# Altium footprint library Connector.PcbLib: 21 footprints (part 1 of 2)
Each footprint in its own frame and in the unit in brackets; x right, y up, seen from the top. Pads: shape width x height; smd on the part's side, far side on the other; paste and mask are expansions set on the pad; w line width, h text height; cw(c..) or ccw(c..) is an arc to the next point about the centre after c.
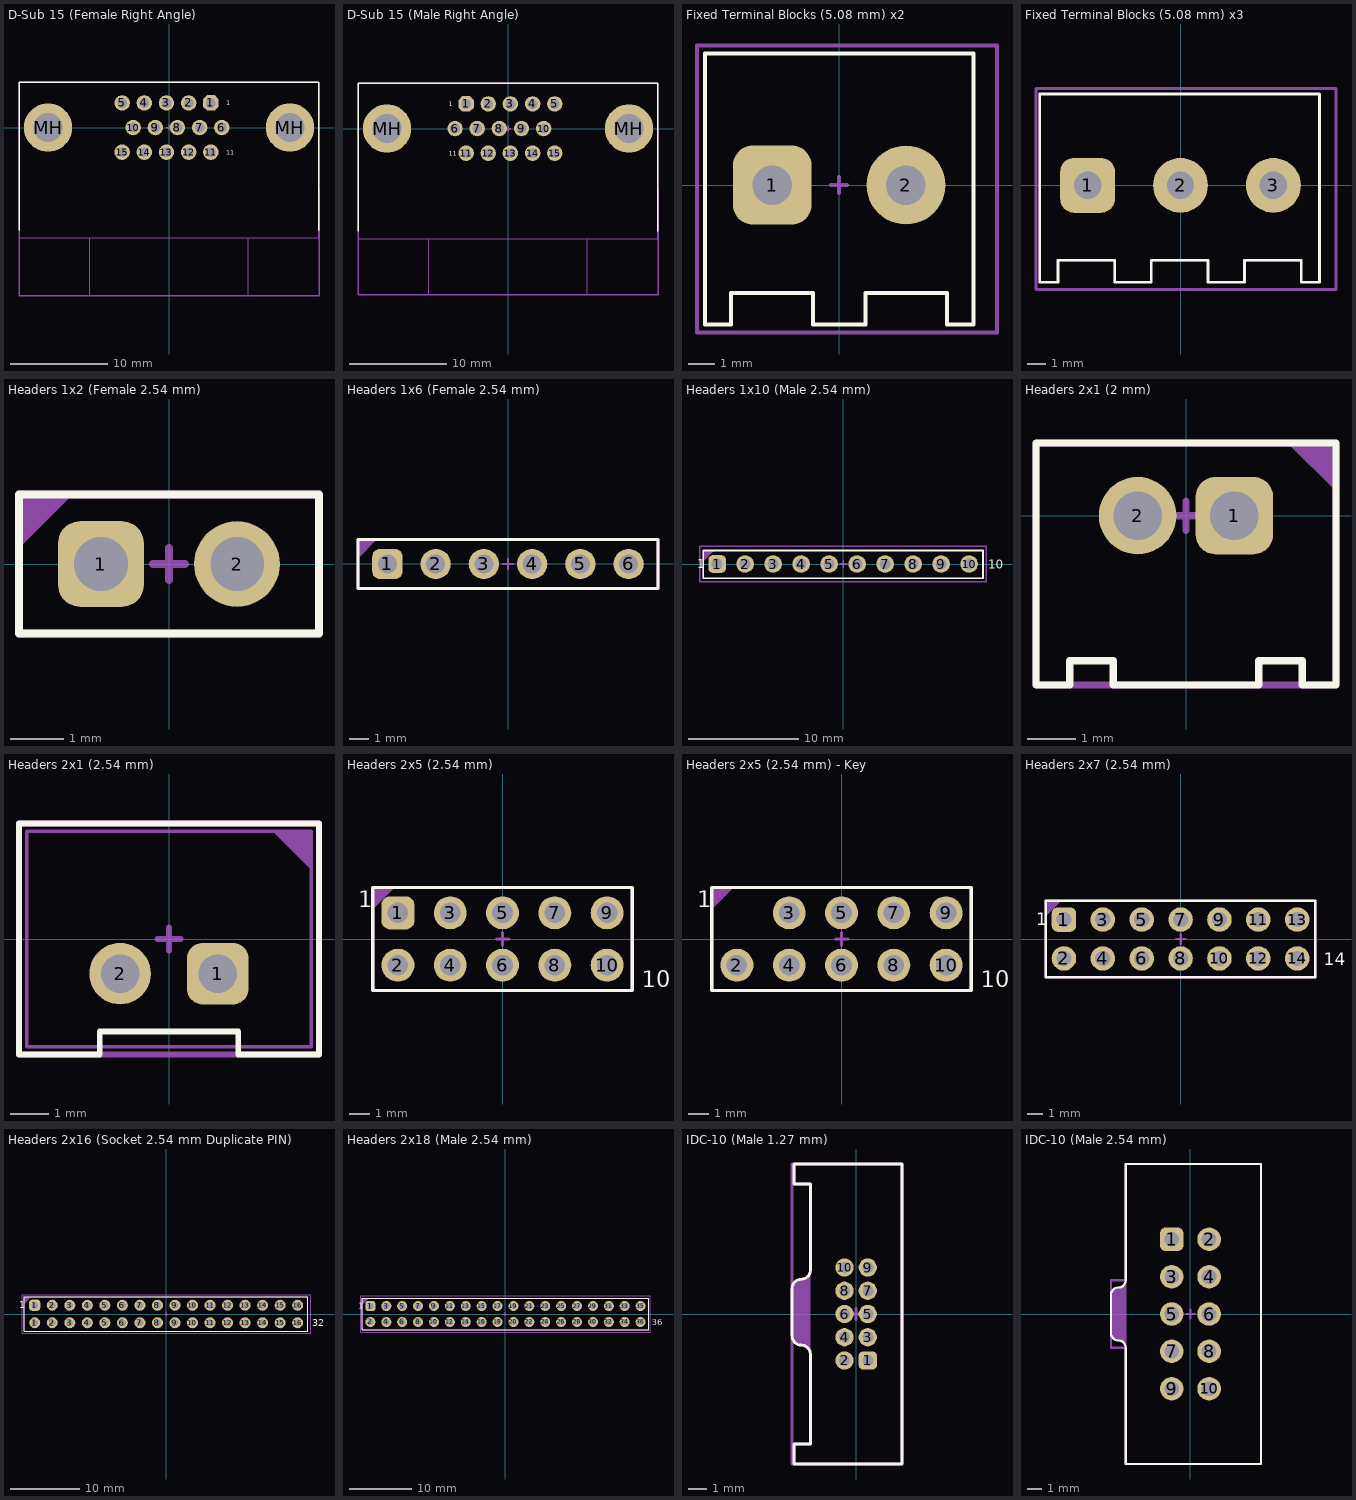
[diagram p0: the footprints below, top view; thin cyan lines are the x and y axes]

## D-Sub 15 (Female Right Angle) [mm]
pads (17):
  oct 1.6x1.6 hole 1: 1(4.316,2.54)
  round 1.6 hole 1: 2(2.026,2.54) 3(-0.264,2.54) 4(-2.554,2.54) 5(-4.844,2.54) 6(5.456,0) 7(3.166,0) 8(0.876,0) 9(-1.414,0) 10(-3.704,0) 11(4.316,-2.54) 12(2.026,-2.54) 13(-0.264,-2.54) 14(-2.554,-2.54) 15(-4.844,-2.54)
  round 5 hole 3: MH(-12.5,0) MH(12.5,0)
Top Overlay:
  lines w0.153: -15.5,-10.6 -15.5,4.7 15.5,4.7 15.5,-10.6
  text "11" at 5.9,-2.79 h0.5
  text "1" at 5.9,2.29 h0.5
Mechanical 1:
  lines w0.1: -15.5,-11.4 15.5,-11.4
  text "PCB EDGE" at -3.066,-11.2 h0.8
Top Assembly:
  lines w0.1: -15.5,-11.4 -8.2,-11.4 -8.2,-17.4 8.2,-17.4 8.2,-11.4 15.5,-11.4 15.5,4.7 -15.5,4.7 -15.5,-11.4
  text "'.Designator'" at -4.532,-0.333 h0.8
Top Courtyard:
  lines w0.153: -0.3,0 0.3,0 ; 0,-0.3 0,0.3 ; -15.5,-17.4 -15.5,4.7 15.5,4.7 15.5,-17.4 -15.5,-17.4
3D body "c-1-1734344-2-b-3d.stp": height 12.55, standoff -3.45, extent -15.4,-17.4 15.4,4.6

## D-Sub 15 (Male Right Angle) [mm]
pads (17):
  oct 1.6x1.6 hole 1: 1(-4.33,2.54)
  round 1.6 hole 1: 2(-2.04,2.54) 3(0.25,2.54) 4(2.54,2.54) 5(4.83,2.54) 6(-5.475,0) 7(-3.185,0) 8(-0.895,0) 9(1.395,0) 10(3.685,0) 11(-4.33,-2.54) 12(-2.04,-2.54) 13(0.25,-2.54) 14(2.54,-2.54) 15(4.83,-2.54)
  round 5 hole 3: MH(-12.5,0) MH(12.5,0)
Top Overlay:
  lines w0.153: -15.5,-10.6 -15.5,4.7 15.5,4.7 15.5,-10.6
  text "1" at -6.1,2.29 h0.5
  text "11" at -6.1,-2.79 h0.5
Mechanical 1:
  lines w0.1: -15.5,-11.4 15.5,-11.4
  text "PCB EDGE" at -3.066,-11.2 h0.8
Top Assembly:
  lines w0.1: -15.5,-11.4 -8.2,-11.4 -8.2,-17.2 8.2,-17.2 8.2,-11.4 15.5,-11.4 15.5,4.7 -15.5,4.7 -15.5,-11.4
  text "'.Designator'" at -4.532,-0.333 h0.8
Top Courtyard:
  lines w0.153: -0.3,0 0.3,0 ; 0,-0.3 0,0.3 ; -15.5,-17.2 -15.5,4.7 15.5,4.7 15.5,-17.2 -15.5,-17.2
3D body "10090926-P15.stp": height 12.55, standoff -4, extent -15.445,-17.2 15.445,4.7

## Fixed Terminal Blocks (5.08 mm) x2 [mm]
pads (2):
  rrect50% 3x3 hole 1.5: 1(-2.54,0)
  round 3 hole 1.5: 2(2.54,0)
Top Overlay:
  lines w0.153: -5.1,-5.3 -4.1,-5.3 -4.1,-4.1 -1,-4.1 -1,-5.3 1,-5.3 1,-4.1 4.1,-4.1 4.1,-5.3 5.1,-5.3 5.1,5 -5.1,5 -5.1,-5.3
Top Assembly:
  lines w0.1: -5.1,-5.3 -5.1,5 5.1,5 5.1,-5.3 4.1,-5.3 4.1,-4.1 1,-4.1 1,-5.3 -1,-5.3 -1,-4.1 -4.1,-4.1 -4.1,-5.3 -5.1,-5.3
  text "'.Designator'" at -4.532,-0.333 h0.8
Top Courtyard:
  lines w0.153: -0.3,0 0.3,0 ; 0,-0.3 0,0.3 ; -5.4,-5.6 -5.4,5.3 6,5.3 6,-5.6 -5.4,-5.6
3D body "CUI_DEVICES_TB007-508-02BE.step": height 14.1, standoff -3.6, extent -5.08,-5.325 5.68,4.925

## Fixed Terminal Blocks (5.08 mm) x3 [mm]
pads (3):
  rrect50% 3x3 hole 1.5: 1(-5.08,0)
  round 3 hole 1.5: 2(0,0) 3(5.08,0)
Top Overlay:
  lines w0.153: -7.7,-5.3 -6.7,-5.3 -6.7,-4.1 -3.6,-4.1 -3.6,-5.3 -1.6,-5.3 -1.6,-4.1 1.5,-4.1 1.5,-5.3 3.5,-5.3 3.5,-4.1 6.6,-4.1 6.6,-5.3 7.6,-5.3 7.6,5 -7.7,5 -7.7,-5.3
Top Assembly:
  lines w0.1: -7.7,-5.3 -6.7,-5.3 -6.7,-4.1 -3.6,-4.1 -3.6,-5.3 -1.6,-5.3 -1.6,-4.1 1.5,-4.1 1.5,-5.3 3.5,-5.3 3.5,-4.1 6.6,-4.1 6.6,-5.3 7.6,-5.3 7.6,5 -7.7,5 -7.7,-5.3
  text "'.Designator'" at -4.532,-0.333 h0.8
Top Courtyard:
  lines w0.153: -0.3,0 0.3,0 ; 0,-0.3 0,0.3 ; -7.9,-5.7 -7.9,5.3 8.5,5.3 8.5,-5.7 -7.9,-5.7
3D body "CUI_DEVICES_TB007-508-03BE.step": height 14.1, standoff -3.6, extent -7.62,-5.325 8.22,4.925

## Headers 1x2 (Female 2.54 mm) [mm]
pads (2):
  rrect50% 1.6x1.6 hole 1: 1(-1.27,0)
  round 1.6 hole 1: 2(1.27,0)
Top Overlay:
  lines w0.153: -2.8,-1.3 2.8,-1.3 2.8,1.3 -2.8,1.3 -2.8,-1.3
Top Assembly:
  region: -2.8,1.3 -1.8,1.3 -2.8,0.3
  lines w0.1: -2.8,-1.3 2.8,-1.3 2.8,1.3 -2.8,1.3 -2.8,-1.3
  text "'.Designator'" at -4.532,-0.333 h0.8
Top Courtyard:
  lines w0.153: -0.3,0 0.3,0 ; 0,-0.3 0,0.3 ; -2.8,-1.3 -2.8,1.3 2.8,1.3 2.8,-1.3 -2.8,-1.3
3D body "PCB.step": height 8.5, standoff -3.2, extent -2.79,-1.27 2.79,1.27

## Headers 1x6 (Female 2.54 mm) [mm]
pads (6):
  rrect50% 1.6x1.6 hole 1: 1(-6.35,0)
  round 1.6 hole 1: 2(-3.81,0) 3(-1.27,0) 4(1.27,0) 5(3.81,0) 6(6.35,0)
Top Overlay:
  lines w0.153: -7.9,-1.3 7.9,-1.3 7.9,1.3 -7.9,1.3 -7.9,-1.3
Top Assembly:
  region: -7.9,1.3 -6.9,1.3 -7.9,0.3
  lines w0.1: -7.9,-1.3 7.9,-1.3 7.9,1.3 -7.9,1.3 -7.9,-1.3
  text "'.Designator'" at -4.532,-0.333 h0.8
Top Courtyard:
  lines w0.1: -0.3,0 0.3,0 ; 0,-0.3 0,0.3
  lines w0.153: -7.9,-1.3 7.9,-1.3 7.9,1.3 -7.9,1.3 -7.9,-1.3
3D body "User Library-Header_Fem_1X6 (1).step": height 8.5, standoff -3.2, extent -7.87,-1.27 7.87,1.27

## Headers 1x10 (Male 2.54 mm) [mm]
pads (10):
  rrect50% 1.6x1.6 hole 1: 1(-11.43,0)
  round 1.6 hole 1: 2(-8.89,0) 3(-6.35,0) 4(-3.81,0) 5(-1.27,0) 6(1.27,0) 7(3.81,0) 8(6.35,0) 9(8.89,0) 10(11.43,0)
Top Overlay:
  lines w0.153: -12.7,-1.3 12.7,-1.3 12.7,1.23 -12.7,1.23 -12.7,-1.3
  text "10" at 13.163,-0.43 h0.8
  text "1" at -13.257,-0.37 h0.8
Top Assembly:
  region: -12.7,1.23 -12.7,0.23 -11.7,1.23
  lines w0.1: -12.7,-1.3 12.7,-1.3 12.7,1.23 -12.7,1.23 -12.7,-1.3
  text "'.Designator'" at -4.532,-0.333 h0.8
Top Courtyard:
  lines w0.153: -0.3,0 0.3,0 ; 0,-0.3 0,0.3 ; -13,-1.6 13,-1.6 13,1.6 -13,1.6 -13,-1.6
3D body "User Library-PLS-10.step": height 8.54, standoff -3, extent -12.7,-1.27 12.7,1.27

## Headers 2x1 (2 mm) [mm]
pads (2):
  rrect50% 1.6x1.6 hole 1: 1(1,0)
  round 1.6 hole 1: 2(-1,0)
Top Overlay:
  lines w0.153: -3.1,-3.5 -2.4,-3.5 -2.4,-3 -1.5,-3 -1.5,-3.5 1.5,-3.5 1.5,-3 2.4,-3 2.4,-3.5 3.1,-3.5 3.1,1.5 -3.1,1.5 -3.1,-3.5
Top Assembly:
  region: 3.1,1.5 3.1,0.5 2.1,1.5
  lines w0.1: -3.1,-3.5 -3.1,1.5 3.1,1.5 3.1,-3.5 -3.1,-3.5
  text "'.Designator'" at -4.532,-0.333 h0.8
Top Courtyard:
  lines w0.153: -0.3,0 0.3,0 ; 0,-0.3 0,0.3 ; -3.1,-3.5 -3.1,1.5 3.1,1.5 3.1,-3.5 -3.1,-3.5
3D body "User Library-MW-2M-2.STEP": height 6.2, standoff -2.7, extent -2.95,-3.4 2.95,1.4

## Headers 2x1 (2.54 mm) [mm]
pads (2):
  rrect50% 1.6x1.6 hole 1: 1(1.27,-0.9)
  round 1.6 hole 1: 2(-1.27,-0.9)
Top Overlay:
  lines w0.153: -3.9,-3 -1.8,-3 -1.8,-2.4 1.8,-2.4 1.8,-3 3.9,-3 3.9,3 -3.9,3 -3.9,-3
Top Assembly:
  region: 3.7,2.8 3.7,1.8 2.7,2.8
  lines w0.1: -3.7,-2.8 -3.7,2.8 3.7,2.8 3.7,-2.8 -3.7,-2.8
  text "'.Designator'" at -4.532,-0.333 h0.8
Top Courtyard:
  lines w0.153: -0.3,0 0.3,0 ; 0,-0.3 0,0.3 ; -3.9,-3 -3.9,3 3.9,3 3.9,-3 -3.9,-3
3D body "Untitled v1.step": height 7, standoff -3, extent -3.715,-2.825 3.715,2.825

## Headers 2x5 (2.54 mm) [mm]
pads (10):
  rrect50% 1.6x1.6 hole 1: 1(-5.08,1.27)
  round 1.6 hole 1: 2(-5.08,-1.27) 3(-2.54,1.27) 4(-2.54,-1.27) 5(0,1.27) 6(0,-1.27) 7(2.54,1.27) 8(2.54,-1.27) 9(5.08,1.27) 10(5.08,-1.27)
Top Overlay:
  lines w0.153: -6.3,-2.5 -6.3,2.5 6.3,2.5 6.3,-2.5 -6.3,-2.5
  text "1" at -7.02,1.547 h0.8
  text "10" at 6.753,-2.347 h0.8
Top Assembly:
  region: -6.26,2.5 -6.26,1.5 -5.26,2.5
  lines w0.1: -6.3,-2.5 -6.3,2.5 6.3,2.5 6.3,-2.5 -6.3,-2.5
  text "'.Designator'" at -4.532,-0.333 h0.8
Top Courtyard:
  lines w0.153: -0.3,0 0.3,0 ; 0,-0.3 0,0.3 ; -6.3,-2.5 -6.3,2.5 6.3,2.5 6.3,-2.5 -6.3,-2.5
3D body "TSW-105-07-H-D.stp": height 8.38, standoff -2.54, extent -6.35,-2.54 6.35,2.54

## Headers 2x5 (2.54 mm) - Key [mm]
pads (9):
  round 1.6 hole 1: 2(-5.08,-1.27) 3(-2.54,1.27) 4(-2.54,-1.27) 5(0,1.27) 6(0,-1.27) 7(2.54,1.27) 8(2.54,-1.27) 9(5.08,1.27) 10(5.08,-1.27)
Top Overlay:
  lines w0.153: -6.3,-2.5 -6.3,2.5 6.3,2.5 6.3,-2.5 -6.3,-2.5
  text "1" at -7.02,1.547 h0.8
  text "10" at 6.753,-2.347 h0.8
Top Assembly:
  region: -6.26,2.5 -6.26,1.5 -5.26,2.5
  lines w0.1: -6.3,-2.5 -6.3,2.5 6.3,2.5 6.3,-2.5 -6.3,-2.5
  text "'.Designator'" at -4.532,-0.333 h0.8
Top Courtyard:
  lines w0.153: -0.3,0 0.3,0 ; 0,-0.3 0,0.3 ; -6.3,-2.5 -6.3,2.5 6.3,2.5 6.3,-2.5 -6.3,-2.5
3D body "TSW-105-07-H-D.stp": height 8.38, standoff -2.54, extent -6.35,-2.54 6.35,2.54

## Headers 2x7 (2.54 mm) [mm]
pads (14):
  rrect50% 1.6x1.6 hole 1: 1(-7.62,1.27)
  round 1.6 hole 1: 2(-7.62,-1.27) 3(-5.08,1.27) 4(-5.08,-1.27) 5(-2.54,1.27) 6(-2.54,-1.27) 7(0,1.27) 8(0,-1.27) 9(2.54,1.27) 10(2.54,-1.27) 11(5.08,1.27) 12(5.08,-1.27) 13(7.62,1.27) 14(7.62,-1.27)
Top Overlay:
  lines w0.153: -8.8,-2.5 -8.8,2.5 8.8,2.5 8.8,-2.5 -8.8,-2.5
  text "1" at -9.447,0.9 h0.8
  text "14" at 9.353,-1.7 h0.8
Top Assembly:
  region: -8.8,2.5 -8.8,1.5 -7.8,2.5
  lines w0.1: -8.8,-2.5 -8.8,2.5 8.8,2.5 8.8,-2.5 -8.8,-2.5
  text "'.Designator'" at -4.532,-0.333 h0.8
Top Courtyard:
  lines w0.153: -0.3,0 0.3,0 ; 0,-0.3 0,0.3 ; -8.8,-2.5 -8.8,2.5 8.8,2.5 8.8,-2.5 -8.8,-2.5
3D body "77313_y18_14_asm.STEP": height 8.27, standoff -3.23, extent -8.681,-2.414 8.699,2.416

## Headers 2x16 (Socket 2.54 mm Duplicate PIN) [mm]
pads (32):
  round 1.6 hole 1: 1(-19.05,-1.27) 2(-16.51,-1.27) 2(-16.51,1.27) 3(-13.97,-1.27) 3(-13.97,1.27) 4(-11.43,-1.27) 4(-11.43,1.27) 5(-8.89,-1.27) 5(-8.89,1.27) 6(-6.35,-1.27) 6(-6.35,1.27) 7(-3.81,-1.27) 7(-3.81,1.27) 8(-1.27,-1.27) 8(-1.27,1.27) 9(1.27,-1.27) 9(1.27,1.27) 10(3.81,-1.27) 10(3.81,1.27) 11(6.35,-1.27) 11(6.35,1.27) 12(8.89,-1.27) 12(8.89,1.27) 13(11.43,-1.27) 13(11.43,1.27) 14(13.97,-1.27) 14(13.97,1.27) 15(16.51,-1.27) 15(16.51,1.27) 16(19.05,-1.27) 16(19.05,1.27)
  rrect50% 1.6x1.6 hole 1: 1(-19.05,1.27)
Top Overlay:
  lines w0.153: -20.56,-2.5 -20.56,2.5 20.54,2.5 20.54,-2.5 -20.56,-2.5
  text "32" at 21.14,-1.77 h1
  text "1" at -21.33,0.8 h1
Top Assembly:
  region: -20.56,2.5 -20.56,1.5 -19.56,2.5
  lines w0.1: -20.56,-2.5 -20.56,2.5 20.54,2.5 20.54,-2.5 -20.56,-2.5
  text "'.Designator'" at -4.532,-0.333 h0.8
Top Courtyard:
  lines w0.153: -0.3,0 0.3,0 ; 0,-0.3 0,0.3 ; -20.86,-2.8 20.94,-2.8 20.94,2.8 -20.86,2.8 -20.86,-2.8
3D body "User Library-PBD_(DS1023-2)_2line_connectors_h=5_0_8_5mm_step_2_54mm_fixed (1).step": height 8.5, standoff -3, extent -20.57,-2.48 20.57,2.52

## Headers 2x18 (Male 2.54 mm) [mm]
pads (36):
  rrect50% 1.6x1.6 hole 1: 1(-21.59,1.27)
  round 1.6 hole 1: 2(-21.59,-1.27) 3(-19.05,1.27) 4(-19.05,-1.27) 5(-16.51,1.27) 6(-16.51,-1.27) 7(-13.97,1.27) 8(-13.97,-1.27) 9(-11.43,1.27) 10(-11.43,-1.27) 11(-8.89,1.27) 12(-8.89,-1.27) 13(-6.35,1.27) 14(-6.35,-1.27) 15(-3.81,1.27) 16(-3.81,-1.27) 17(-1.27,1.27) 18(-1.27,-1.27) 19(1.27,1.27) 20(1.27,-1.27) 21(3.81,1.27) 22(3.81,-1.27) 23(6.35,1.27) 24(6.35,-1.27) 25(8.89,1.27) 26(8.89,-1.27) 27(11.43,1.27) 28(11.43,-1.27) 29(13.97,1.27) 30(13.97,-1.27) 31(16.51,1.27) 32(16.51,-1.27) 33(19.05,1.27) 34(19.05,-1.27) 35(21.59,1.27) 36(21.59,-1.27)
Top Overlay:
  lines w0.153: -22.86,-2.5 22.86,-2.5 22.86,2.5 -22.86,2.5 -22.86,-2.5
  text "1" at -23.57,0.8 h1
  text "36" at 23.37,-1.8 h1
Top Assembly:
  region: -22.86,2.5 -22.86,1.5 -21.86,2.5
  lines w0.1: -22.86,-2.5 22.86,-2.5 22.86,2.5 -22.86,2.5 -22.86,-2.5
  text "'.Designator'" at -4.532,-0.333 h0.8
Top Courtyard:
  lines w0.153: -0.3,0 0.3,0 ; 0,-0.3 0,0.3 ; -23.16,-2.9 -23.16,2.9 23.16,2.9 23.16,-2.9 -23.16,-2.9
3D body "TSW-105-07-H-D.stp": height 8.38, standoff -2.54, extent 2.54,-2.54 15.24,2.54
3D body "TSW-105-07-H-D.stp": height 8.38, standoff -2.54, extent -10.16,-2.54 2.54,2.54
3D body "TSW-105-07-H-D.stp": height 8.38, standoff -2.54, extent -22.86,-2.54 -10.16,2.54
3D body "TSW-105-07-H-D.stp": height 8.38, standoff -2.54, extent 10.16,-2.54 22.86,2.54

## IDC-10 (Male 1.27 mm) [mm]
pads (10):
  rrect50% 1x1 hole 0.6: 1(0.635,-2.54)
  round 1 hole 0.6: 2(-0.635,-2.54) 3(0.635,-1.27) 4(-0.635,-1.27) 5(0.635,0) 6(-0.635,0) 7(0.635,1.27) 8(-0.635,1.27) 9(0.635,2.54) 10(-0.635,2.54)
Top Overlay:
  lines w0.153: -3.5,-1.2 ccw(c-3,-1.2) -3,-1.7 cw(c-3,-2.2) -2.5,-2.2 -2.5,-7.1 -3.4,-7.1 -3.4,-8.2 2.5,-8.2 2.5,8.2 -3.4,8.2 -3.4,7.1 -2.5,7.1 -2.5,2.4 cw(c-3,2.4) -3,1.9 ccw(c-3,1.4) -3.5,1.4 -3.5,-1.2
Top Assembly:
  region: -3,-1.7 -3.099,-1.7 -3.283,-1.624 -3.424,-1.483 -3.5,-1.299 -3.5,-1.2 -3.5,1.4 -3.5,1.499 -3.424,1.683 -3.283,1.824 -3.099,1.9 -3,1.9 -2.902,1.91 -2.722,1.984 -2.584,2.122 -2.51,2.302 -2.5,2.4 -2.5,-2.2 -2.51,-2.102 -2.584,-1.922 -2.722,-1.784 -2.902,-1.71
  lines w0.153: -3.5,-1.2 ccw(c-3,-1.2) -3,-1.7 cw(c-3,-2.2) -2.5,-2.2 -2.5,-7.1 -3.4,-7.1 -3.4,-8.2 2.5,-8.2 2.5,8.2 -3.4,8.2 -3.4,7.1 -2.5,7.1 -2.5,2.4 cw(c-3,2.4) -3,1.9 ccw(c-3,1.4) -3.5,1.4 -3.5,-1.2
  text "'.Designator'" at -4.532,-0.333 h0.8
Top Courtyard:
  lines w0.153: -0.3,0 0.3,0 ; 0,-0.3 0,0.3 ; -3.5,-8.2 -3.5,8.2 2.5,8.2 2.5,-8.2 -3.5,-8.2
3D body "ESHF-105-01-L-D-TH.stp": height 5.35, standoff -1.89, extent -3.048,-8.255 2.54,8.255

## IDC-10 (Male 2.54 mm) [mm]
pads (10):
  rrect50% 1.6x1.6 hole 1: 1(-1.27,5.08)
  round 1.6 hole 1: 2(1.27,5.08) 3(-1.27,2.54) 4(1.27,2.54) 5(-1.27,0) 6(1.27,0) 7(-1.27,-2.54) 8(1.27,-2.54) 9(-1.27,-5.08) 10(1.27,-5.08)
Top Overlay:
  lines w0.153: -5.4,-1.3 ccw(c-4.9,-1.3) -4.9,-1.8 cw(c-4.9,-2.3) -4.4,-2.3 -4.4,-10.2 4.8,-10.2 4.8,10.2 -4.4,10.2 -4.4,2.3 cw(c-4.9,2.3) -4.9,1.8 ccw(c-4.9,1.3) -5.4,1.3 -5.4,-1.3
Top Assembly:
  region: -4.9,-1.8 -4.999,-1.8 -5.183,-1.724 -5.324,-1.583 -5.4,-1.399 -5.4,-1.3 -5.4,1.3 -5.4,1.399 -5.324,1.583 -5.183,1.724 -4.999,1.8 -4.9,1.8 -4.802,1.81 -4.622,1.884 -4.484,2.022 -4.41,2.202 -4.4,2.3 -4.4,-2.3 -4.41,-2.202 -4.484,-2.022 -4.622,-1.884 -4.802,-1.81
  lines w0.1: -4.4,-2.3 ccw(c-4.9,-2.3) -4.9,-1.8 cw(c-4.9,-1.3) -5.4,-1.3 -5.4,1.3 cw(c-4.9,1.3) -4.9,1.8 ccw(c-4.9,2.3) -4.4,2.3 ; -4.4,-2.3 -4.4,-10.2 4.8,-10.2 4.8,10.2 -4.4,10.2 -4.4,2.3 ; -4.4,-2.3 -4.4,2.3
  text "'.Designator'" at -4.532,-0.333 h0.8
Top Courtyard:
  lines w0.153: -0.3,0 0.3,0 ; 0,-0.3 0,0.3 ; -5.4,-2.3 -4.4,-2.3 -4.4,-10.2 4.8,-10.2 4.8,10.2 -4.4,10.2 -4.4,2.3 -5.4,2.3 -5.4,-2.3
3D body "61201021621 (rev1).stp": height 9.13, standoff -2.98, extent -4.425,-10.18 4.75,10.18